# Altium schematic symbol library Шунты.SchLib: 1 symbol
Pins are listed as number, name and electrical type; pins without a type are passive.

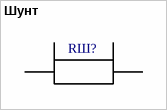
[diagram p0: symbol Шунт]

## Шунт
designator RШ?  (value not drawn)
pins: 1, 2, 3, 4